# EAGLE library part AT25DF512C_MAHNT (library Livolo_EU_2Gang_1way)
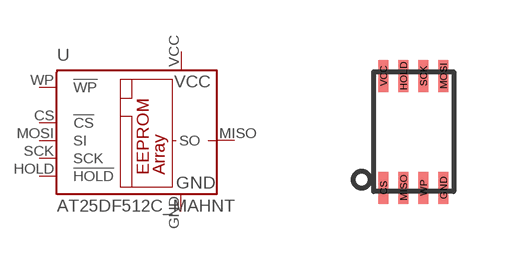
[diagram p1: symbol with the pads of AT25DF512C_MAHNT; footprint AT25DF512C_MAHNT]

Designator prefix -

## AT25DF512C_MAHNT  [AT25DF512C_MAHNT]
CS  !CS  in
GND  GND  pwr
HOLD  !HOLD  in
MISO  SO
MOSI  SI  in
SCK  SCK  in
VCC  VCC  pwr
WP  !WP  in

## Footprint AT25DF512C_MAHNT (pad centres in mm)
smd 0.25 x 0.8: CS -0.75,-1.4; GND 0.75,-1.4; HOLD -0.25,1.4; MISO -0.25,-1.4; MOSI 0.75,1.4; SCK 0.25,1.4; VCC -0.75,1.4; WP 0.25,-1.4